# Altium integrated library Xilinx XC18V00.IntLib: 10 symbols
Pins are listed as number, name and electrical type; pins without a type are passive.

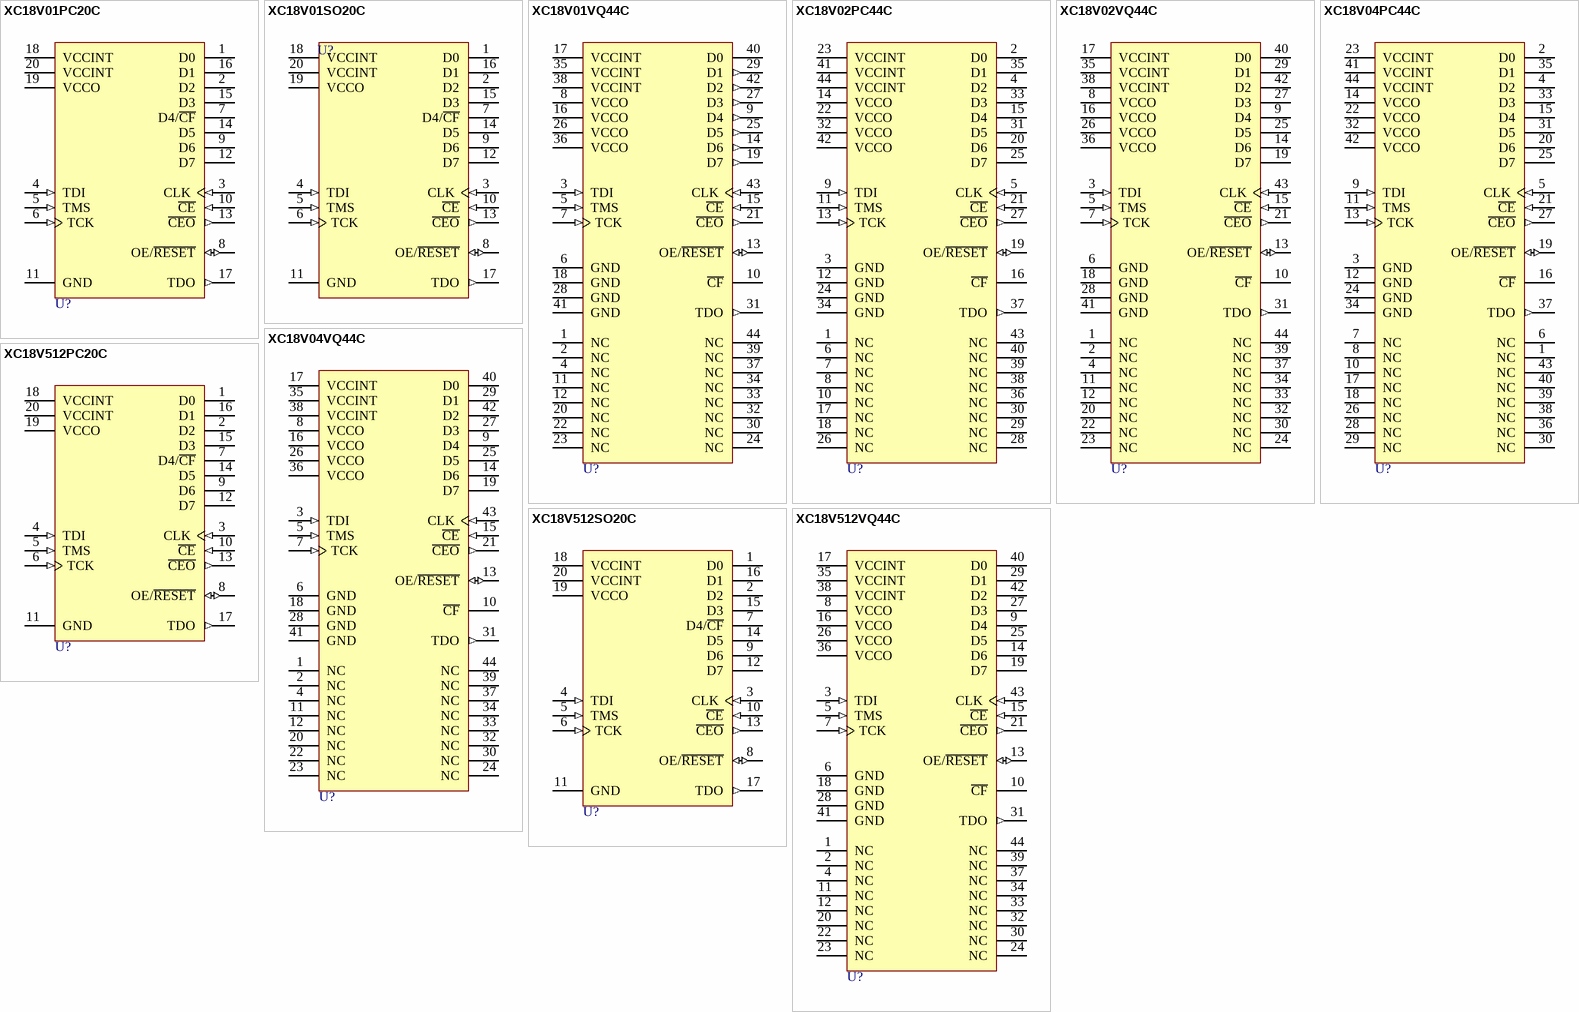
[diagram p0: symbols XC18V01PC20C to XC18V512VQ44C]

## XC18V01PC20C
designator U?
XC18V00 Series, In-System Programmable Configuration 3.3V PROM, 20-Pin PLCC, 1-Megabit, Commercial Grade; PackageDocument: ver1.0, Jun-2000; Note: For devices with IDCODES, 0503x093h, VCCINT pin 20 is a no connect (NC) pin.; Published: 17-Sep-2003; DatasheetDocument: ver5.0, Apr-2004; PackageReference: PC20; Publisher: Altium Limited; Code_JEDEC: MS-047
footprint PC20 (20-Pin Plastic Leaded Chip Carrier (PC20))
3D model XC18V01-PC20 (20-Pin Plastic Leaded Chip Carrier (PC20))
pins: 1 D0 (hiz) "Data Output pin for configuring a Xilinx FPGA in serial mode.", 2 D2 (hiz) "Data Output pin for configuring a Xilinx FPGA in Slave-Parallel/SelectMap mode.", 3 CLK (in) "Configuration Clock Input.", 4 TDI (in) "JTAG Serial Data Input.", 5 TMS (in) "JTAG Mode Select Input.", 6 TCK (in) "JTAG Test Clock Input.", 7 D4/~{CF} (hiz) "Data Output pin / Configuration Pulse.", 8 OE/~{RESET} (io) "Output Enable/Reset (Open-Drain I/O).", 9 D6 (hiz) "Data Output pin for configuring a Xilinx FPGA in Slave-Parallel/SelectMap mode.", 10 ~{CE} (in) "Chip Enable Input.", 11 GND (power) "Ground", 12 D7 (hiz) "Data Output pin for configuring a Xilinx FPGA in Slave-Parallel/SelectMap mode.", 13 ~{CEO} (out) "Chip Enable Output, connects to the CE input of the next PROM in the chain.", 14 D5 (hiz) "Data Output pin for configuring a Xilinx FPGA in Slave-Parallel/SelectMap mode.", 15 D3 (hiz) "Data Output pin for configuring a Xilinx FPGA in Slave-Parallel/SelectMap mode.", 16 D1 (hiz) "Data Output pin for configuring a Xilinx FPGA in Slave-Parallel/SelectMap mode.", 17 TDO (out) "JTAG Serial Data Output.", 18 VCCINT (power) "+3.3V supply for internal logic.", 19 VCCO (power) "+3.3V or +2.5V supply voltage.", 20 VCCINT (power) "+3.3V supply for internal logic."

## XC18V01SO20C
designator U?
XC18V00 Series, In-System Programmable Configuration 3.3V PROM, 20-Pin SOIC, 1-Megabit, Commercial Grade; PackageDocument: ver1.0, Jun-2000; Note: For devices with IDCODES, 0503x093h, VCCINT pin 20 is a no connect (NC) pin.; Published: 17-Sep-2003; DatasheetDocument: ver5.0, Apr-2004; PackageReference: SO20; Publisher: Altium Limited; Code_JEDEC: MS-013-AC
footprint SO20 (20-Pin Small-Outline Package (SO20))
pins: 1 D0 (hiz) "Data Output pin for configuring a Xilinx FPGA in serial mode.", 2 D2 (hiz) "Data Output pin for configuring a Xilinx FPGA in Slave-Parallel/SelectMap mode.", 3 CLK (in) "Configuration Clock Input.", 4 TDI (in) "JTAG Serial Data Input.", 5 TMS (in) "JTAG Mode Select Input.", 6 TCK (in) "JTAG Test Clock Input.", 7 D4/~{CF} (hiz) "Data Output / Configuration Pulse.", 8 OE/~{RESET} (io) "Output Enable/Reset (Open-Drain I/O).", 9 D6 (hiz) "Data Output pin for configuring a Xilinx FPGA in Slave-Parallel/SelectMap mode.", 10 ~{CE} (in) "Chip Enable Input.", 11 GND (power) "Ground", 12 D7 (hiz) "Data Output pin for configuring a Xilinx FPGA in Slave-Parallel/SelectMap mode.", 13 ~{CEO} (out) "Chip Enable Output, connects to the CE input of the next PROM in the chain.", 14 D5 (hiz) "Data Output pin for configuring a Xilinx FPGA in Slave-Parallel/SelectMap mode.", 15 D3 (hiz) "Data Output pin for configuring a Xilinx FPGA in Slave-Parallel/SelectMap mode.", 16 D1 (hiz) "Data Output pin for configuring a Xilinx FPGA in Slave-Parallel/SelectMap mode.", 17 TDO (out) "JTAG Serial Data Output.", 18 VCCINT (power) "+3.3V supply for internal logic.", 19 VCCO (power) "+3.3V or +2.5V supply voltage.", 20 VCCINT (power) "+3.3V supply for internal logic."

## XC18V01VQ44C
designator U?
XC18V00 Series, In-System Programmable Configuration 3.3V PROM, 44-Pin VQFP, 1-Megabit, Commercial Grade; PackageDocument: ver1.1, Oct-2002; Note: For devices with IDCODES, 0503x093h, VCCINT pin 38 is a no connect (NC) pin.; Published: 17-Sep-2003; DatasheetDocument: ver5.0, Apr-2004; PackageReference: VQ44; Publisher: Altium Limited; Code_JEDEC: MS-026-ACB
footprint VQ44 (44-Pin Very Thin Quad Flat Pack (VQ44))
3D model XC18V01-VQ44 (44-Pin Very Thin Quad Flat Pack (VQ44))
pins: 1 NC "No Connect", 2 NC "No Connect", 3 TDI (in) "JTAG Serial Data Input.", 4 NC "No Connect", 5 TMS (in) "JTAG Mode Select Input.", 6 GND (power) "Ground", 7 TCK (in) "JTAG Test Clock Input.", 8 VCCO (power) "+3.3V or +2.5V supply voltage.", 9 D4 (out) "Data Output pin for configuring a Xilinx FPGA in Slave-Parallel/SelectMap mode.", 10 ~{CF} (oc) "Configuration Pulse (Open-Drain Output).", 11 NC "No Connect", 12 NC "No Connect", 13 OE/~{RESET} (io) "Output Enable/Reset (Open-Drain I/O).", 14 D6 (out) "Data Output pin for configuring a Xilinx FPGA in Slave-Parallel/SelectMap mode.", 15 ~{CE} (in) "Chip Enable Input.", 16 VCCO (power) "+3.3V or +2.5V supply voltage.", 17 VCCINT (power) "+3.3V supply for internal logic.", 18 GND (power) "Ground", 19 D7 (out) "Data Output pin for configuring a Xilinx FPGA in Slave-Parallel/SelectMap mode.", 20 NC "No Connect", 21 ~{CEO} (out) "Chip Enable Output, connects to the CE input of the next PROM in the chain.", 22 NC "No Connect", 23 NC "No Connect", 24 NC "No Connect", 25 D5 (out) "Data Output pin for configuring a Xilinx FPGA in Slave-Parallel/SelectMap mode.", 26 VCCO (power) "+3.3V or +2.5V supply voltage.", 27 D3 (out) "Data Output pin for configuring a Xilinx FPGA in Slave-Parallel/SelectMap mode.", 28 GND (power) "Ground", 29 D1 (out) "Data Output pin for configuring a Xilinx FPGA in Slave-Parallel/SelectMap mode.", 30 NC "No Connect", 31 TDO (out) "JTAG Serial Data Output.", 32 NC "No Connect", 33 NC "No Connect", 34 NC "No Connect", 35 VCCINT (power) "+3.3V supply for internal logic.", 36 VCCO (power) "+3.3V or +2.5V supply voltage.", 37 NC "No Connect", 38 VCCINT (power) "+3.3V supply for internal logic.", 39 NC "No Connect", 40 D0 (hiz) "Data Output pin for configuring a Xilinx FPGA in serial mode.", 41 GND (power) "Ground", 42 D2 (out) "Data Output pin for configuring a Xilinx FPGA in Slave-Parallel/SelectMap mode.", 43 CLK (in) "Configuration Clock Input.", 44 NC "No Connect"

## XC18V02PC44C
designator U?
XC18V00 Series, In-System Programmable Configuration 3.3V PROM, 44-Pin PLCC, 2-Megabit, Commercial Grade; PackageDocument: ver1.0, Jun-2000; Note: For devices with IDCODES, 0503x093h, VCCINT pin 44 is a no connect (NC) pin.; Published: 17-Sep-2003; DatasheetDocument: ver5.0, Apr-2004; PackageReference: PC44; Publisher: Altium Limited; Code_JEDEC: MS-047; Code_IPC: PLCC-44
footprint PC44 (44-Pin Plastic Leaded Chip Carrier (PC44))
3D model XC18V02-PC44 (44-Pin Plastic Leaded Chip Carrier (PC44))
pins: 1 NC "No Connect", 2 D0 (hiz) "Data Output pin for configuring a Xilinx FPGA in serial mode.", 3 GND (power) "Ground", 4 D2 (hiz) "Data Output pin for configuring a Xilinx FPGA in Slave-Parallel/SelectMap mode.", 5 CLK (in) "Configuration Clock Input.", 6 NC "No Connect", 7 NC "No Connect", 8 NC "No Connect", 9 TDI (in) "JTAG Serial Data Input.", 10 NC "No Connect", 11 TMS (in) "JTAG Mode Select Input.", 12 GND (power) "Ground", 13 TCK (in) "JTAG Test Clock Input.", 14 VCCO (power) "+3.3V or +2.5V supply voltage.", 15 D4 (hiz) "Data Output pin for configuring a Xilinx FPGA in Slave-Parallel/SelectMap mode.", 16 ~{CF} (oc) "Configuration Pulse (Open-Drain Output).", 17 NC "No Connect", 18 NC "No Connect", 19 OE/~{RESET} (io) "Output Enable/Reset (Open-Drain I/O).", 20 D6 (hiz) "Data Output pin for configuring a Xilinx FPGA in Slave-Parallel/SelectMap mode.", 21 ~{CE} (in) "Chip Enable Input.", 22 VCCO (power) "+3.3V or +2.5V supply voltage.", 23 VCCINT (power) "+3.3V supply for internal logic.", 24 GND (power) "Ground", 25 D7 (hiz) "Data Output pin for configuring a Xilinx FPGA in Slave-Parallel/SelectMap mode.", 26 NC "No Connect", 27 ~{CEO} (out) "Chip Enable Output, connects to the CE input of the next PROM in the chain.", 28 NC "No Connect", 29 NC "No Connect", 30 NC "No Connect", 31 D5 (hiz) "Data Output pin for configuring a Xilinx FPGA in Slave-Parallel/SelectMap mode.", 32 VCCO (power) "+3.3V or +2.5V supply voltage.", 33 D3 (hiz) "Data Output pin for configuring a Xilinx FPGA in Slave-Parallel/SelectMap mode.", 34 GND (power) "Ground", 35 D1 (hiz) "Data Output pin for configuring a Xilinx FPGA in Slave-Parallel/SelectMap mode.", 36 NC "No Connect", 37 TDO (out) "JTAG Serial Data Output.", 38 NC "No Connect", 39 NC "No Connect", 40 NC "No Connect", 41 VCCINT (power) "+3.3V supply for internal logic.", 42 VCCO (power) "+3.3V or +2.5V supply voltage.", 43 NC "No Connect", 44 VCCINT (power) "+3.3V supply for internal logic."

## XC18V02VQ44C
designator U?
XC18V00 Series, In-System Programmable Configuration 3.3V PROM, 44-Pin VQFP, 2-Megabit, Commercial Grade; PackageDocument: ver1.1, Oct-2002; Note: For devices with IDCODES, 0503x093h, VCCINT pin 38 is a no connect (NC) pin.; Published: 17-Sep-2003; DatasheetDocument: ver5.0, Apr-2004; PackageReference: VQ44; Publisher: Altium Limited; Code_JEDEC: MS-026-ACB
footprint VQ44 (44-Pin Very Thin Quad Flat Pack (VQ44))
3D model XC18V02-VQ44 (44-Pin Very Thin Quad Flat Pack (VQ44))
pins: 1 NC "No Connect", 2 NC "No Connect", 3 TDI (in) "JTAG Serial Data Input.", 4 NC "No Connect", 5 TMS (in) "JTAG Mode Select Input.", 6 GND (power) "Ground", 7 TCK (in) "JTAG Test Clock Input.", 8 VCCO (power) "+3.3V or +2.5V supply voltage.", 9 D4 (hiz) "Data Output pin for configuring a Xilinx FPGA in Slave-Parallel/SelectMap mode.", 10 ~{CF} (oc) "Configuration Pulse (Open-Drain Output).", 11 NC "No Connect", 12 NC "No Connect", 13 OE/~{RESET} (io) "Output Enable/Reset (Open-Drain I/O).", 14 D6 (hiz) "Data Output pin for configuring a Xilinx FPGA in Slave-Parallel/SelectMap mode.", 15 ~{CE} (in) "Chip Enable Input.", 16 VCCO (power) "+3.3V or +2.5V supply voltage.", 17 VCCINT (power) "+3.3V supply for internal logic.", 18 GND (power) "Ground", 19 D7 (hiz) "Data Output pin for configuring a Xilinx FPGA in Slave-Parallel/SelectMap mode.", 20 NC "No Connect", 21 ~{CEO} (out) "Chip Enable Output, connects to the CE input of the next PROM in the chain.", 22 NC "No Connect", 23 NC "No Connect", 24 NC "No Connect", 25 D5 (hiz) "Data Output pin for configuring a Xilinx FPGA in Slave-Parallel/SelectMap mode.", 26 VCCO (power) "+3.3V or +2.5V supply voltage.", 27 D3 (hiz) "Data Output pin for configuring a Xilinx FPGA in Slave-Parallel/SelectMap mode.", 28 GND (power) "Ground", 29 D1 (hiz) "Data Output pin for configuring a Xilinx FPGA in Slave-Parallel/SelectMap mode.", 30 NC "No Connect", 31 TDO (out) "JTAG Serial Data Output.", 32 NC "No Connect", 33 NC "No Connect", 34 NC "No Connect", 35 VCCINT (power) "+3.3V supply for internal logic.", 36 VCCO (power) "+3.3V or +2.5V supply voltage.", 37 NC "No Connect", 38 VCCINT (power) "+3.3V supply for internal logic.", 39 NC "No Connect", 40 D0 (hiz) "Data Output pin for configuring a Xilinx FPGA in serial mode.", 41 GND (power) "Ground", 42 D2 (hiz) "Data Output pin for configuring a Xilinx FPGA in Slave-Parallel/SelectMap mode.", 43 CLK (in) "Configuration Clock Input.", 44 NC "No Connect"

## XC18V04PC44C
designator U?
XC18V00 Series, In-System Programmable Configuration 3.3V PROM, 44-Pin PLCC, 4-Megabit, Commercial Grade; PackageDocument: ver1.0, Jun-2000; Note: For devices with IDCODES, 0503x093h, VCCINT pin 44 is a no connect (NC) pin.; Published: 17-Sep-2003; DatasheetDocument: ver5.0, Apr-2004; PackageReference: PC44; Publisher: Altium Limited; Code_JEDEC: MS-047; Code_IPC: PLCC-44
footprint PC44 (44-Pin Plastic Leaded Chip Carrier (PC44))
3D model XC18V04-PC44 (44-Pin Plastic Leaded Chip Carrier (PC44))
pins: 1 NC "No Connect", 2 D0 (hiz) "Data Output pin for configuring a Xilinx FPGA in serial mode.", 3 GND (power) "Ground", 4 D2 (hiz) "Data Output pin for configuring a Xilinx FPGA in Slave-Parallel/SelectMap mode.", 5 CLK (in) "Configuration Clock Input.", 6 NC "No Connect", 7 NC "No Connect", 8 NC "No Connect", 9 TDI (in) "JTAG Serial Data Input.", 10 NC "No Connect", 11 TMS (in) "JTAG Mode Select Input.", 12 GND (power) "Ground", 13 TCK (in) "JTAG Test Clock Input.", 14 VCCO (power) "+3.3V or +2.5V supply voltage.", 15 D4 (hiz) "Data Output pin for configuring a Xilinx FPGA in Slave-Parallel/SelectMap mode.", 16 ~{CF} (oc) "Configuration Pulse (Open-Drain Output).", 17 NC "No Connect", 18 NC "No Connect", 19 OE/~{RESET} (io) "Output Enable/Reset (Open-Drain I/O).", 20 D6 (hiz) "Data Output pin for configuring a Xilinx FPGA in Slave-Parallel/SelectMap mode.", 21 ~{CE} (in) "Chip Enable Input.", 22 VCCO (power) "+3.3V or +2.5V supply voltage.", 23 VCCINT (power) "+3.3V supply for internal logic.", 24 GND (power) "Ground", 25 D7 (hiz) "Data Output pin for configuring a Xilinx FPGA in Slave-Parallel/SelectMap mode.", 26 NC "No Connect", 27 ~{CEO} (out) "Chip Enable Output, connects to the CE input of the next PROM in the chain.", 28 NC "No Connect", 29 NC "No Connect", 30 NC "No Connect", 31 D5 (hiz) "Data Output pin for configuring a Xilinx FPGA in Slave-Parallel/SelectMap mode.", 32 VCCO (power) "+3.3V or +2.5V supply voltage.", 33 D3 (hiz) "Data Output pin for configuring a Xilinx FPGA in Slave-Parallel/SelectMap mode.", 34 GND (power) "Ground", 35 D1 (hiz) "Data Output pin for configuring a Xilinx FPGA in Slave-Parallel/SelectMap mode.", 36 NC "No Connect", 37 TDO (out) "JTAG Serial Data Output.", 38 NC "No Connect", 39 NC "No Connect", 40 NC "No Connect", 41 VCCINT (power) "+3.3V supply for internal logic.", 42 VCCO (power) "+3.3V or +2.5V supply voltage.", 43 NC "No Connect", 44 VCCINT (power) "+3.3V supply for internal logic."

## XC18V04VQ44C
designator U?
XC18V00 Series, In-System Programmable Configuration 3.3V PROM, 44-Pin VQFP, 4-Megabit, Commercial Grade; PackageDocument: ver1.1, Oct-2002; Note: For devices with IDCODES, 0503x093h, VCCINT pin 38 is a no connect (NC) pin.; Published: 17-Sep-2003; DatasheetDocument: ver5.0, Apr-2004; PackageReference: VQ44; Publisher: Altium Limited; Code_JEDEC: MS-026-ACB
footprint VQ44 (44-Pin Very Thin Quad Flat Pack (VQ44))
3D model XC18V04-VQ44 (44-Pin Very Thin Quad Flat Pack (VQ44))
pins: 1 NC "No Connect", 2 NC "No Connect", 3 TDI (in) "JTAG Serial Data Input.", 4 NC "No Connect", 5 TMS (in) "JTAG Mode Select Input.", 6 GND (power) "Ground", 7 TCK (in) "JTAG Test Clock Input.", 8 VCCO (power) "+3.3V or +2.5V supply voltage.", 9 D4 (hiz) "Data Output pin for configuring a Xilinx FPGA in Slave-Parallel/SelectMap mode.", 10 ~{CF} (oc) "Configuration Pulse (Open-Drain Output).", 11 NC "No Connect", 12 NC "No Connect", 13 OE/~{RESET} (io) "Output Enable/Reset (Open-Drain I/O).", 14 D6 (hiz) "Data Output pin for configuring a Xilinx FPGA in Slave-Parallel/SelectMap mode.", 15 ~{CE} (in) "Chip Enable Input.", 16 VCCO (power) "+3.3V or +2.5V supply voltage.", 17 VCCINT (power) "+3.3V supply for internal logic.", 18 GND (power) "Ground", 19 D7 (hiz) "Data Output pin for configuring a Xilinx FPGA in Slave-Parallel/SelectMap mode.", 20 NC "No Connect", 21 ~{CEO} (out) "Chip Enable Output, connects to the CE input of the next PROM in the chain.", 22 NC "No Connect", 23 NC "No Connect", 24 NC "No Connect", 25 D5 (hiz) "Data Output pin for configuring a Xilinx FPGA in Slave-Parallel/SelectMap mode.", 26 VCCO (power) "+3.3V or +2.5V supply voltage.", 27 D3 (hiz) "Data Output pin for configuring a Xilinx FPGA in Slave-Parallel/SelectMap mode.", 28 GND (power) "Ground", 29 D1 (hiz) "Data Output pin for configuring a Xilinx FPGA in Slave-Parallel/SelectMap mode.", 30 NC "No Connect", 31 TDO (out) "JTAG Serial Data Output.", 32 NC "No Connect", 33 NC "No Connect", 34 NC "No Connect", 35 VCCINT (power) "+3.3V supply for internal logic.", 36 VCCO (power) "+3.3V or +2.5V supply voltage.", 37 NC "No Connect", 38 VCCINT (power) "+3.3V supply for internal logic.", 39 NC "No Connect", 40 D0 (hiz) "Data Output pin for configuring a Xilinx FPGA in serial mode.", 41 GND (power) "Ground", 42 D2 (hiz) "Data Output pin for configuring a Xilinx FPGA in Slave-Parallel/SelectMap mode.", 43 CLK (in) "Configuration Clock Input.", 44 NC "No Connect"

## XC18V512PC20C
designator U?
XC18V00 Series, In-System Programmable Configuration 3.3V PROM, 20-Pin PLCC, 512-Kilobit, Commercial Grade; PackageDocument: ver1.0, Jun-2000; Note: For devices with IDCODES, 0503x093h, VCCINT pin 20 is a no connect (NC) pin.; Published: 17-Sep-2003; DatasheetDocument: ver5.0, Apr-2004; PackageReference: PC20; Publisher: Altium Limited; Code_JEDEC: MS-047
footprint PC20 (20-Pin Plastic Leaded Chip Carrier (PC20))
3D model XC18V512-PC20 (20-Pin Plastic Leaded Chip Carrier (PC20))
pins: 1 D0 (hiz) "Data Output pin for configuring a Xilinx FPGA in serial mode.", 2 D2 (hiz) "Data Output pin for configuring a Xilinx FPGA in Slave-Parallel/SelectMap mode.", 3 CLK (in) "Configuration Clock Input.", 4 TDI (in) "JTAG Serial Data Input.", 5 TMS (in) "JTAG Mode Select Input.", 6 TCK (in) "JTAG Test Clock Input.", 7 D4/~{CF} (hiz) "Data Output / Configuration Pulse.", 8 OE/~{RESET} (io) "Output Enable/Reset (Open-Drain I/O).", 9 D6 (hiz) "Data Output pin for configuring a Xilinx FPGA in Slave-Parallel/SelectMap mode.", 10 ~{CE} (in) "Chip Enable Input.", 11 GND (power) "Ground", 12 D7 (hiz) "Data Output pin for configuring a Xilinx FPGA in Slave-Parallel/SelectMap mode.", 13 ~{CEO} (out) "Chip Enable Output, connects to the CE input of the next PROM in the chain.", 14 D5 (hiz) "Data Output pin for configuring a Xilinx FPGA in Slave-Parallel/SelectMap mode.", 15 D3 (hiz) "Data Output pin for configuring a Xilinx FPGA in Slave-Parallel/SelectMap mode.", 16 D1 (hiz) "Data Output pin for configuring a Xilinx FPGA in Slave-Parallel/SelectMap mode.", 17 TDO (out) "JTAG Serial Data Output.", 18 VCCINT (power) "+3.3V supply for internal logic.", 19 VCCO (power) "+3.3V or +2.5V supply voltage.", 20 VCCINT (power) "+3.3V supply for internal logic."

## XC18V512SO20C
designator U?
XC18V00 Series, In-System Programmable Configuration 3.3V PROM, 20-Pin SOIC, 512-Kilobit, Commercial Grade; PackageDocument: ver1.0, Jun-2000; Note: For devices with IDCODES, 0503x093h, VCCINT pin 20 is a no connect (NC) pin.; Published: 17-Sep-2003; DatasheetDocument: ver5.0, Apr-2004; PackageReference: SO20; Publisher: Altium Limited; Code_JEDEC: MS-013-AC
footprint SO20 (20-Pin Small-Outline Package (SO20))
pins: 1 D0 (hiz) "Data Output pin for configuring a Xilinx FPGA in serial mode.", 2 D2 (hiz) "Data Output pin for configuring a Xilinx FPGA in Slave-Parallel/SelectMap mode.", 3 CLK (in) "Configuration Clock Input.", 4 TDI (in) "JTAG Serial Data Input.", 5 TMS (in) "JTAG Mode Select Input.", 6 TCK (in) "JTAG Test Clock Input.", 7 D4/~{CF} (hiz) "Data Output / Configuration Pulse .", 8 OE/~{RESET} (io) "Output Enable/Reset (Open-Drain I/O).", 9 D6 (hiz) "Data Output pin for configuring a Xilinx FPGA in Slave-Parallel/SelectMap mode.", 10 ~{CE} (in) "Chip Enable Input.", 11 GND (power) "Ground", 12 D7 (hiz) "Data Output pin for configuring a Xilinx FPGA in Slave-Parallel/SelectMap mode.", 13 ~{CEO} (out) "Chip Enable Output, connects to the CE input of the next PROM in the chain.", 14 D5 (hiz) "Data Output pin for configuring a Xilinx FPGA in Slave-Parallel/SelectMap mode.", 15 D3 (hiz) "Data Output pin for configuring a Xilinx FPGA in Slave-Parallel/SelectMap mode.", 16 D1 (hiz) "Data Output pin for configuring a Xilinx FPGA in Slave-Parallel/SelectMap mode.", 17 TDO (out) "JTAG Serial Data Output.", 18 VCCINT (power) "+3.3V supply for internal logic.", 19 VCCO (power) "+3.3V or +2.5V supply voltage.", 20 VCCINT (power) "+3.3V supply for internal logic."

## XC18V512VQ44C
designator U?
XC18V00 Series, In-System Programmable Configuration 3.3V PROM, 44-Pin VQFP, 512-Kilobit, Commercial Grade; PackageDocument: ver1.1, Oct-2002; Note: For devices with IDCODES, 0503x093h, VCCINT pin 38 is a no connect (NC) pin.; Published: 17-Sep-2003; DatasheetDocument: ver5.0, Apr-2004; PackageReference: VQ44; Publisher: Altium Limited; Code_JEDEC: MS-026-ACB
footprint VQ44 (44-Pin Very Thin Quad Flat Pack (VQ44))
3D model XC18V512-VQ44 (44-Pin Very Thin Quad Flat Pack (VQ44))
pins: 1 NC "No Connect", 2 NC "No Connect", 3 TDI (in) "JTAG Serial Data Input.", 4 NC "No Connect", 5 TMS (in) "JTAG Mode Select Input.", 6 GND (power) "Ground", 7 TCK (in) "JTAG Test Clock Input.", 8 VCCO (power) "+3.3V or +2.5V supply voltage.", 9 D4 (hiz) "Data Output pin for configuring a Xilinx FPGA in Slave-Parallel/SelectMap mode.", 10 ~{CF} (oc) "Configuration Pulse (Open-Drain Output).", 11 NC "No Connect", 12 NC "No Connect", 13 OE/~{RESET} (io) "Output Enable/Reset (Open-Drain I/O).", 14 D6 (hiz) "Data Output pin for configuring a Xilinx FPGA in Slave-Parallel/SelectMap mode.", 15 ~{CE} (in) "Chip Enable Input.", 16 VCCO (power) "+3.3V or +2.5V supply voltage.", 17 VCCINT (power) "+3.3V supply for internal logic.", 18 GND (power) "Ground", 19 D7 (hiz) "Data Output pin for configuring a Xilinx FPGA in Slave-Parallel/SelectMap mode.", 20 NC "No Connect", 21 ~{CEO} (out) "Chip Enable Output, connects to the CE input of the next PROM in the chain.", 22 NC "No Connect", 23 NC "No Connect", 24 NC "No Connect", 25 D5 (hiz) "Data Output pin for configuring a Xilinx FPGA in Slave-Parallel/SelectMap mode.", 26 VCCO (power) "+3.3V or +2.5V supply voltage.", 27 D3 (hiz) "Data Output pin for configuring a Xilinx FPGA in Slave-Parallel/SelectMap mode.", 28 GND (power) "Ground", 29 D1 (hiz) "Data Output pin for configuring a Xilinx FPGA in Slave-Parallel/SelectMap mode.", 30 NC "No Connect", 31 TDO (out) "JTAG Serial Data Output.", 32 NC "No Connect", 33 NC "No Connect", 34 NC "No Connect", 35 VCCINT (power) "+3.3V supply for internal logic.", 36 VCCO (power) "+3.3V or +2.5V supply voltage.", 37 NC "No Connect", 38 VCCINT (power) "+3.3V supply for internal logic.", 39 NC "No Connect", 40 D0 (hiz) "Data Output pin for configuring a Xilinx FPGA in serial mode.", 41 GND (power) "Ground", 42 D2 (hiz) "Data Output pin for configuring a Xilinx FPGA in Slave-Parallel/SelectMap mode.", 43 CLK (in) "Configuration Clock Input.", 44 NC "No Connect"